# EAGLE library part TMUX1208 (library Group_10_Library)
TMUX1208 DESCRIPTION The TMUX1208 is general purpose complementary metal-oxide semiconductor (CMOS) multiplexers (MUX). The TMUX1208 offers 8:1 singleended channels. Wide operating supply of 1.08 V to 5.5 V allows for use in a broad array of applications from personal electronics to building automation applications. The device supports bidirectional analog and digital signals on the source (Sx) and drain (D) pins ranging from GND to VDD. All logic inputs have 1.8 V logic compatible thresholds, ensuring both TTL and CMOS logic compatibility when operating in the valid supply voltage range. Fail-Safe Logic circuitry allows voltages on the control pins to be applied before the supply pin, protecting the device from potential damage. Find more information in the datasheet <https://www.ti.com/lit/ds/symlink/tmux1208.pdf>. FEATURES Rail to Rail Operation Bidirectional Signal Path Low On-Resistance: 5 Ω Wide Supply Range: 1.08 V to 5.5 V -40°C to +125°C Operating Temperature 1.8 V Logic Compatible Fail-Safe Logic Low Supply Current: 10 nA Transition Time: 14 ns Break-Before-Make Switching ESD Protection HBM: 2000 V Industry-Standard TSSOP and QFN Packages APPLICATIONS Analog and Digital Multiplexing / Demultiplexing HVAC: Heating, Ventilation, and Air Conditioning Smoke Detectors Video Surveillance Electronic Point of Sale Battery-Powered Equipment Appliances Consumer Audio
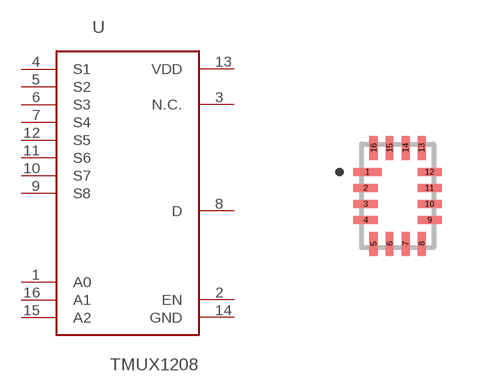
[diagram p0: symbol with the pads of QFN16; footprint QFN16]

Designator prefix -

## TMUX1208  [QFN16]
1  A0
2  EN
3  N.C.
4  S1
5  S2
6  S3
7  S4
8  D
9  S8
10  S7
11  S6
12  S5
13  VDD
14  GND
15  A2
16  A1

## Footprint QFN16 (pad centres in mm)
smd 0.7 x 0.2: 1 -0.75,0.6
smd 0.6 x 0.2: 2 -0.8,0.2; 3 -0.8,-0.2; 4 -0.8,-0.6; 9 0.8,-0.6; 10 0.8,-0.2; 11 0.8,0.2; 12 0.8,0.6
smd 0.2 x 0.6: 5 -0.6,-1.2; 6 -0.2,-1.2; 7 0.2,-1.2; 8 0.6,-1.2; 13 0.6,1.2; 14 0.2,1.2; 15 -0.2,1.2; 16 -0.6,1.2